# Altium schematic symbol library Comms board footprint.SchLib: 1 symbol
Pins are listed as number, name and electrical type; pins without a type are passive.

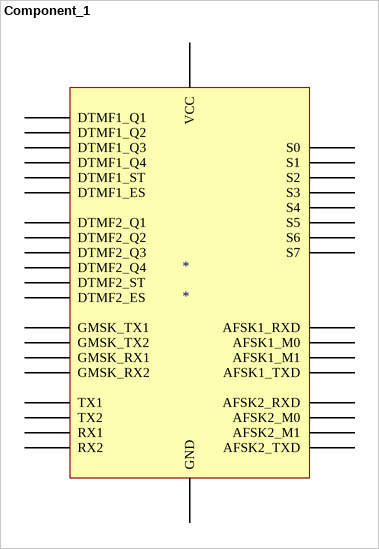
[diagram p0: symbol Component_1]

## Component_1
designator *
footprint COMMS BOARD
pins: ?1 VCC, AFSK1_M0, AFSK1_M1, AFSK1_RXD, AFSK1_TXD, AFSK2_M0, AFSK2_M1, AFSK2_RXD, AFSK2_TXD, DTMF1_ES, DTMF1_Q1, DTMF1_Q2, DTMF1_Q3, DTMF1_Q4, DTMF1_ST, DTMF2_ES, DTMF2_Q1, DTMF2_Q2, DTMF2_Q3, DTMF2_Q4, DTMF2_ST, GMSK_RX1, GMSK_RX2, GMSK_TX1, GMSK_TX2, GND, RX2 RX1, RX2, S0, S1, S2, S3, S4, S5, S6, S7, TX1, TX2